# Altium footprint library LQFP100-14x14.PcbLib: 1 footprints
Each footprint in its own frame and in the unit in brackets; x right, y up, seen from the top. Pads: shape width x height; smd on the part's side, far side on the other; paste and mask are expansions set on the pad; w line width, h text height; cw(c..) or ccw(c..) is an arc to the next point about the centre after c.
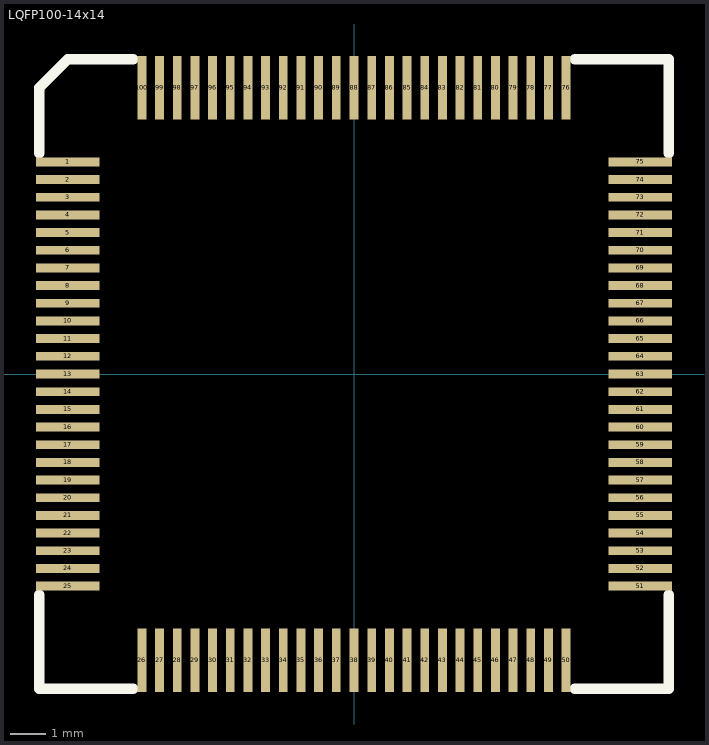
[diagram p0: the footprint, top view; thin cyan lines are the x and y axes]

## LQFP100-14x14 [mm]
pads (100):
  rect 1.8x0.25 smd: 1(-8.1,6) 2(-8.1,5.5) 3(-8.1,5) 4(-8.1,4.5) 5(-8.1,4) 6(-8.1,3.5) 7(-8.1,3) 8(-8.1,2.5) 9(-8.1,2) 10(-8.1,1.5) 11(-8.1,1) 12(-8.1,0.5) 13(-8.1,0) 14(-8.1,-0.5) 15(-8.1,-1) 16(-8.1,-1.5) 17(-8.1,-2) 18(-8.1,-2.5) 19(-8.1,-3) 20(-8.1,-3.5) 21(-8.1,-4) 22(-8.1,-4.5) 23(-8.1,-5) 24(-8.1,-5.5) 25(-8.1,-6) 51(8.1,-6) 52(8.1,-5.5) 53(8.1,-5) 54(8.1,-4.5) 55(8.1,-4) 56(8.1,-3.5) 57(8.1,-3) 58(8.1,-2.5) 59(8.1,-2) 60(8.1,-1.5) 61(8.1,-1) 62(8.1,-0.5) 63(8.1,0) 64(8.1,0.5) 65(8.1,1) 66(8.1,1.5) 67(8.1,2) 68(8.1,2.5) 69(8.1,3) 70(8.1,3.5) 71(8.1,4) 72(8.1,4.5) 73(8.1,5) 74(8.1,5.5) 75(8.1,6)
  rect 0.25x1.8 smd: 26(-6,-8.1) 27(-5.5,-8.1) 28(-5,-8.1) 29(-4.5,-8.1) 30(-4,-8.1) 31(-3.5,-8.1) 32(-3,-8.1) 33(-2.5,-8.1) 34(-2,-8.1) 35(-1.5,-8.1) 36(-1,-8.1) 37(-0.5,-8.1) 38(0,-8.1) 39(0.5,-8.1) 40(1,-8.1) 41(1.5,-8.1) 42(2,-8.1) 43(2.5,-8.1) 44(3,-8.1) 45(3.5,-8.1) 46(4,-8.1) 47(4.5,-8.1) 48(5,-8.1) 49(5.5,-8.1) 50(6,-8.1) 76(6,8.1) 77(5.5,8.1) 78(5,8.1) 79(4.5,8.1) 80(4,8.1) 81(3.5,8.1) 82(3,8.1) 83(2.5,8.1) 84(2,8.1) 85(1.5,8.1) 86(1,8.1) 87(0.5,8.1) 88(0,8.1) 89(-0.5,8.1) 90(-1,8.1) 91(-1.5,8.1) 92(-2,8.1) 93(-2.5,8.1) 94(-3,8.1) 95(-3.5,8.1) 96(-4,8.1) 97(-4.5,8.1) 98(-5,8.1) 99(-5.5,8.1) 100(-6,8.1)
Top Overlay:
  lines w0.3: -8.9,-6.25 -8.9,-8.9 -6.25,-8.9 ; -8.9,6.25 -8.9,8.1 -8.1,8.9 -6.25,8.9 ; 6.25,-8.9 8.9,-8.9 8.9,-6.25 ; 6.25,8.9 8.9,8.9 8.9,6.25
3D body "User Library-lqfp-100.step": height 1.7, standoff -0.01, extent -8,-8 8,8